# EAGLE library part ESP8266_D1_MINI (library dl9sec_public)
ESP8266 D1 mini (ESP-12E/F) Arduino pin naming
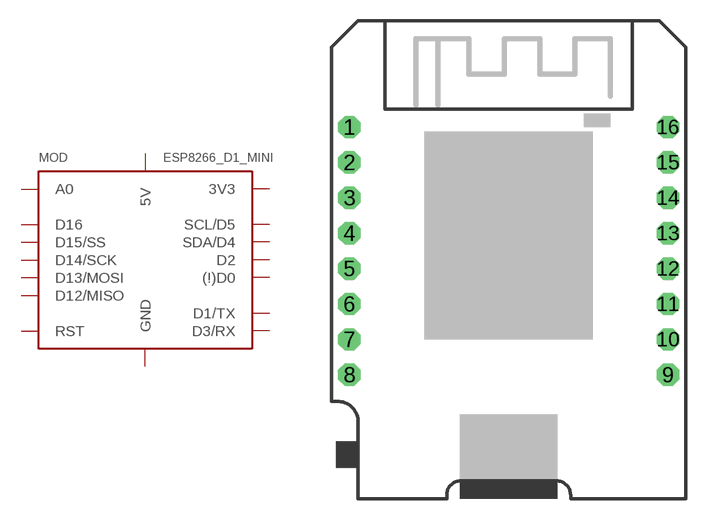
[diagram p10: symbol with the pads of ESP8266_D1_MINI; footprint ESP8266_D1_MINI]

Designator prefix MOD

## ESP8266_D1_MINI  [ESP8266_D1_MINI]
1  RST  in
2  A0  in
3  D16
4  D14/SCK
5  D12/MISO
6  D13/MOSI
7  D15/SS
8  3V3  pas
9  5V  pwr
10  GND  pwr
11  D2
12  (!)D0
13  SDA/D4
14  SCL/D5
15  D3/RX
16  D1/TX

## Footprint ESP8266_D1_MINI (pad centres in mm)
ESP8266 D1 mini (ESP-12E/F)
drill 0.8 pad 1.6 octagon: 1 0,17.78; 2 0,15.24; 3 0,12.7; 4 0,10.16; 5 0,7.62; 6 0,5.08; 7 0,2.54; 8 0,0; 9 22.86,0; 10 22.86,2.54; 11 22.86,5.08; 12 22.86,7.62; 13 22.86,10.16; 14 22.86,12.7; 15 22.86,15.24; 16 22.86,17.78